# EAGLE library part IC_DCDC_HRD12003E (library mylib_20130829)
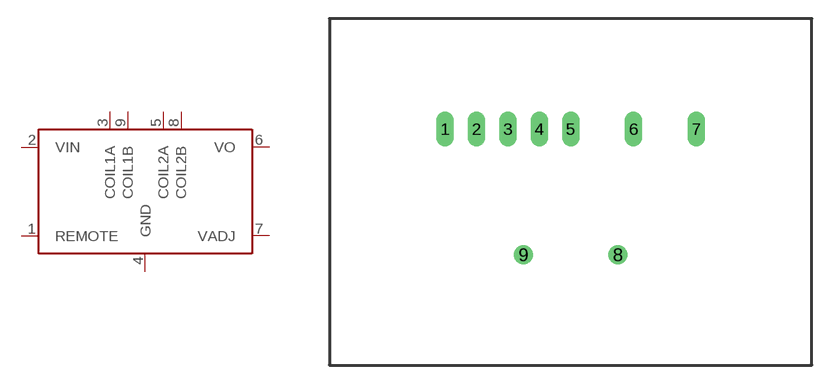
[diagram p21: symbol with the pads of IC_DCDC_HRD12003E; footprint IC_DCDC_HRD12003E]

Designator prefix IC

## IC_DCDC_HRD12003E  [IC_DCDC_HRD12003E]
1  REMOTE
2  VIN
3  COIL1A
4  GND
5  COIL2A
6  VO
7  VADJ
8  COIL2B
9  COIL1B

## Footprint IC_DCDC_HRD12003E (pad centres in mm)
drill 0.9 long: 1 -10.16,5.08; 2 -7.62,5.08; 3 -5.08,5.08; 4 -2.54,5.08; 5 0,5.08; 6 5.08,5.08; 7 10.16,5.08
drill 1: 8 3.81,-5.08; 9 -3.81,-5.08